# Altium footprint library MSOP.PcbLib: 1 footprints
Each footprint in its own frame and in the unit in brackets; x right, y up, seen from the top. Pads: shape width x height; smd on the part's side, far side on the other; paste and mask are expansions set on the pad; w line width, h text height; cw(c..) or ccw(c..) is an arc to the next point about the centre after c.
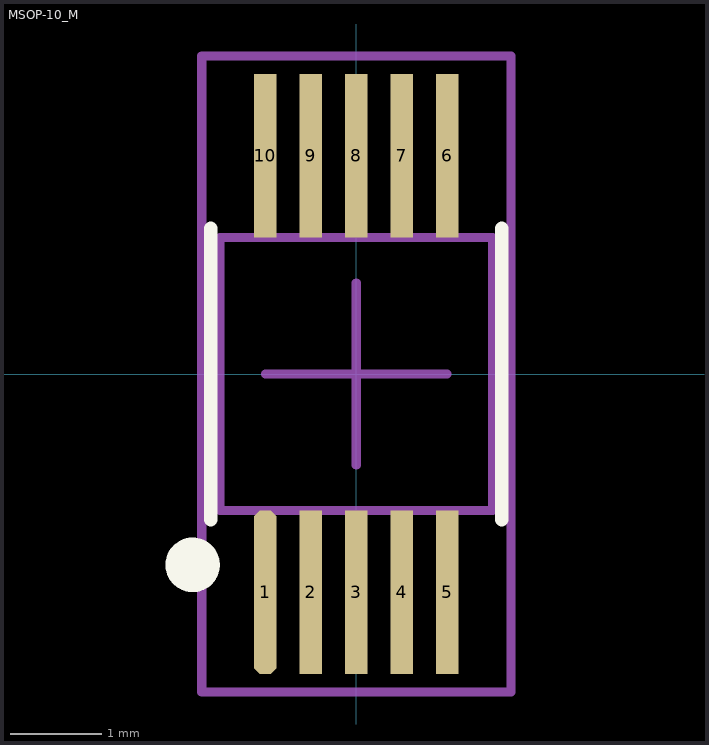
[diagram p0: the footprint, top view; thin cyan lines are the x and y axes]

## MSOP-10_M [mm] "MSOP, 10-Leads, Body 3x3x1.1mm, Pitch 0.5mm, Lead Span 4.9mm, IPC Low Density"
height 1.1
pads (10):
  oct 0.25x1.8 smd paste-0.025 mask+0.075: 1(-1,-2.4)
  rect 0.25x1.8 smd paste-0.025 mask+0.075: 2(-0.5,-2.4) 3(0,-2.4) 4(0.5,-2.4) 5(1,-2.4) 6(1,2.4) 7(0.5,2.4) 8(0,2.4) 9(-0.5,2.4) 10(-1,2.4)
Top Overlay:
  circle w0.3: c-1.8,-2.1 r0.15
  lines w0.15: -1.6,-1.6 -1.6,1.6 ; 1.6,-1.6 1.6,1.6
Mechanical 13:
  lines w0.1: -1.5,-1.5 1.5,-1.5 1.5,1.5 -1.5,1.5 -1.5,-1.5
Mechanical 15:
  lines w0.1: -1,0 1,0 ; 0,-1 0,1 ; -1.7,-3.5 1.7,-3.5 1.7,3.5 -1.7,3.5 -1.7,-3.5
3D body: height 1.1, standoff 0.15, extent -1.5,-1.5 1.5,1.5